# Altium footprint library PCB.PcbLib: 18 footprints (part 2 of 2)
Each footprint in its own frame and in the unit in brackets; x right, y up, seen from the top. Pads: shape width x height; smd on the part's side, far side on the other; paste and mask are expansions set on the pad; w line width, h text height; cw(c..) or ccw(c..) is an arc to the next point about the centre after c.
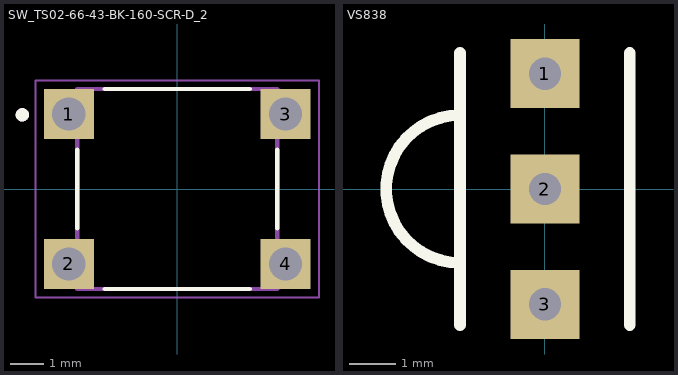
[diagram p1: the footprints below, top view; thin cyan lines are the x and y axes]

## SW_TS02-66-43-BK-160-SCR-D_2 [mm]
pads (4):
  rect 1.508x1.508 / inner round 1.508 / far side rect 1.508x1.508 hole 1: 1(-3.25,2.25)
  rect 1.508x1.508 hole 1: 2(-3.25,-2.25) 3(3.25,2.25) 4(3.25,-2.25)
Top Overlay:
  circle w0.2: c-4.647,2.226 r0.1
  lines w0.127: -3,-1.176 -3,1.176 ; -2.176,-3 2.176,-3 ; -2.176,3 2.176,3 ; 3,-1.176 3,1.176
Mechanical 13:
  circle w0.2: c-4.647,2.226 r0.1
  lines w0.127: -3,-3 3,-3 3,3 -3,3 -3,-3
Mechanical 15:
  lines w0.05: -4.254,-3.254 -4.254,3.254 4.254,3.254 4.254,-3.254 -4.254,-3.254

## VS838 [mm]
height 1.1
pads (3):
  rect 1.5x1.5 hole 0.7: 1(0,2.5) 2(0,0) 3(0,-2.5)
Top Overlay:
  lines w0.254: -1.84,-2.945 -1.84,2.945 ; -1.84,-1.6 cw(c-1.84,0) -1.84,1.6 ; 1.84,-2.945 1.84,2.945
3D body "TSOP.STEP": height 11, standoff -2.2, extent -3.416,-2.54 1.384,2.54